# EAGLE library part TMP117 (library SIH26113_Maternity_Assist_Belt)
TI TMP117AIDRVR high-accuracy digital temperature sensor, WSON-6 (DRV). +/-0.1 C, 1.8-5.5 V, I2C. Pin map from TMP117 SNOSD82D Table 5-1 (WSON column).
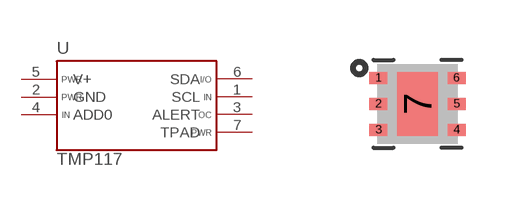
[diagram p2: symbol with the pads of WSON-6-DRV0006B; footprint WSON-6-DRV0006B]

Designator prefix U

## TMP117  [WSON-6-DRV0006B]
1  SCL  in
2  GND  pwr
3  ALERT  oc
4  ADD0  in
5  V+  pwr
6  SDA
7  TPAD  pwr

## Footprint WSON-6-DRV0006B (pad centres in mm)
TI DRV0006B 6-pin WSON 2.0x2.0 mm, 0.65 mm pitch, thermal pad 1.0x1.6 mm. Lands 0.45x0.30 mm at 1.95 mm row spacing, taken directly from TI's EXAMPLE BOARD LAYOUT (TMP117 SNOSD82D p.41). Pad 7 = exposed thermal pad.
smd 0.45 x 0.3: 1 -0.975,0.65; 2 -0.975,0; 3 -0.975,-0.65; 4 0.975,-0.65; 5 0.975,0; 6 0.975,0.65
smd 1 x 1.6: 7 0,0